# Altium integrated library NXP Semiconductors Standard MOSFETs.IntLib: 477 symbols (part 10 of 14)
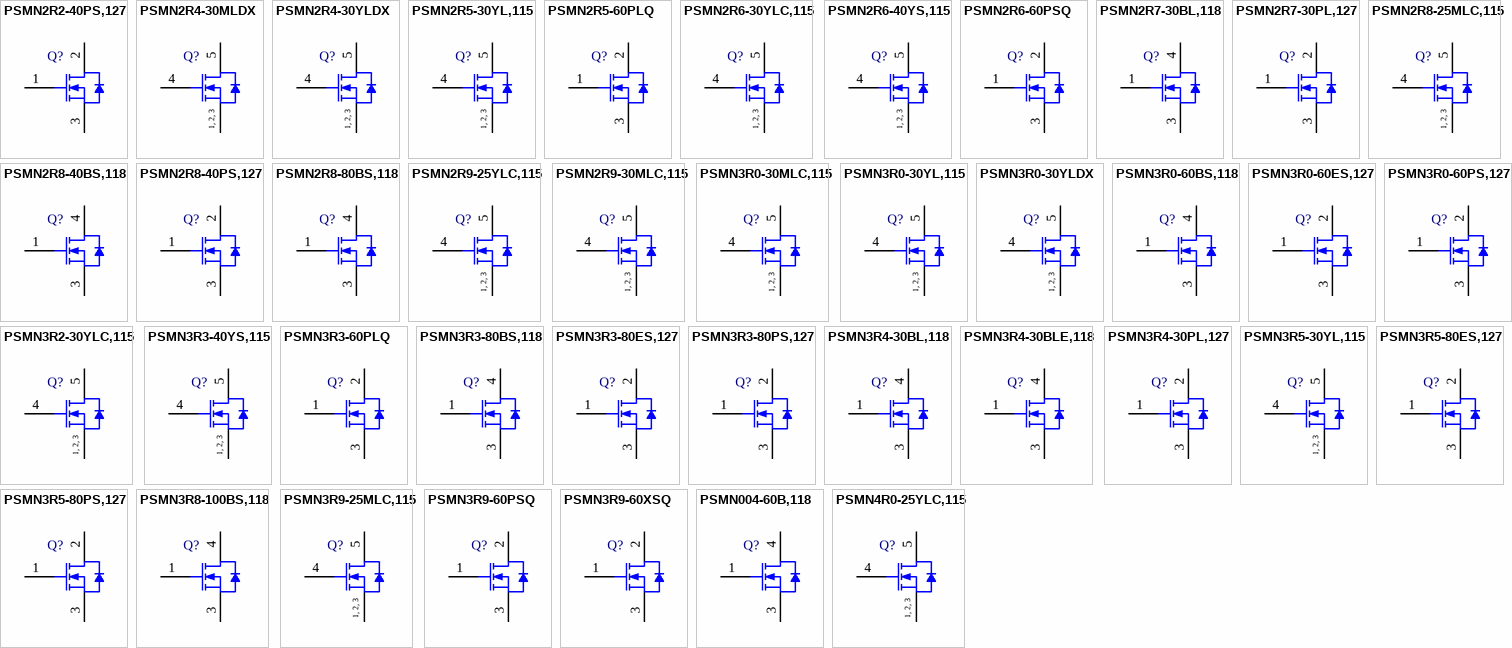
[diagram p21: symbols PSMN2R2-40PS,127 to PSMN4R0-25YLC,115]

## PSMN3R0-30YLDX
designator Q?
N-Channel Logic Level MOSFET Using NextPowerS3 Technology, 30 V, 100 A, 5-Pin SOT669, Tape and Reel; Manufacturer: NXP Semiconductors; PartNumber: PSMN3R0-30YLDX; Channel Type: N; Ciss [typ] (pF): 1959; Coss [typ] (pF): 1029; ID [max] (A): 100; Packing: Tape & Reel; Qr [typ] (nC): 19; VDS [max] (V): 30; VGSth [typ] (V): 1.7; PackageVersion: 13-02-27, 02/2013; PackageReference: SOT669; PackageDescription: 4-Pin Plastic Single-ended Surface Mounted Package, Body 4.9 x 3.95 mm, Pitch 1.27 mm; Supplier 1: Digi-Key; Supplier Part Number 1: 568-11379-2-ND; Supplier 2: Digi-Key; Supplier Part Number 2: 568-11379-1-ND; Supplier 3: Digi-Key; Supplier Part Number 3: 568-11379-6-ND; Supplier 4: Newark; Supplier Part Number 4: 46X5759; Supplier 5: Mouser; Supplier Part Number 5: 771-PSMN3R0-30YLDX; Mounting Technology: Surface Mount; Code_JEDEC: MO-235; ComponentLink1Description: Manufacturer URL; ComponentLink1URL: http://www.nxp.com/; ComponentLink2Description: Datasheet; ComponentLink2URL: http://www.nxp.com/documents/data_sheet/PSMN3R0-30YLD.pdf; ComponentLink3Description: Package Specification; ComponentLink3URL: http://www.nxp.com/documents/outline_drawing/sot669_po.pdf
footprint NXP-SOT669_N (DPAK, 4-Leads, Body 5x4.1mm, Pitch 1.27mm, IPC Medium Density)
footprint NXP-SOT669_L (DPAK, 4-Leads, Body 5x4.1mm, Pitch 1.27mm, IPC High Density)
footprint NXP-SOT669_M (DPAK, 4-Leads, Body 5x4.1mm, Pitch 1.27mm, IPC Low Density)
pins: 1 S "source", 2 S "source", 3 S "source", 4 G "gate", 5 D "mounting base; connected to drain"
text: 1, 2, 3

## PSMN3R0-60BS,118
designator Q?
N-Channel Standard Level MOSFET, 60 V, 100 A, 3-Pin SOT404, Tape and Reel; Manufacturer: NXP Semiconductors; PartNumber: PSMN3R0-60BS,118; Channel Type: N; Ciss [typ] (pF): 8079; Coss [typ] (pF): 971; ID [max] (A): 100; Packing: Tape & Reel; Qr [typ] (nC): 97; VDS [max] (V): 60; VGSth [typ] (V): 3; DatasheetVersion: Rev. 1; PackageVersion: 13-02-25, 02/2013; PackageReference: SOT404; PackageDescription: 3-Pin Plastic Single-ended Surface Mounted Package, Body 10 x 9.6 mm, Pitch 2.54 mm; Supplier 1: Digi-Key; Supplier Part Number 1: 568-9491-2-ND; Supplier 2: Digi-Key; Supplier Part Number 2: 568-9491-1-ND; Supplier 3: Digi-Key; Supplier Part Number 3: 568-9491-6-ND; Supplier 4: Mouser; Supplier Part Number 4: 771-PSMN3R0-60BS,118; Mounting Technology: Surface Mount; ComponentLink1Description: Manufacturer URL; ComponentLink1URL: http://www.nxp.com/; ComponentLink2Description: Datasheet; ComponentLink2URL: http://www.nxp.com/documents/data_sheet/PSMN3R0-60BS.pdf; ComponentLink3Description: Package Specification; ComponentLink3URL: http://www.nxp.com/documents/outline_drawing/sot404_po.pdf
footprint NXP-SOT404_N (DPAK, 3-Leads, Body 10.3x9.8mm, Pitch 2.54mm, IPC Medium Density)
footprint NXP-SOT404_L (DPAK, 3-Leads, Body 10.3x9.8mm, Pitch 2.54mm, IPC High Density)
footprint NXP-SOT404_M (DPAK, 3-Leads, Body 10.3x9.8mm, Pitch 2.54mm, IPC Low Density)
pins: 1 G "gate", 3 S "source", 4 D "mounting base; connected to drain"

## PSMN3R0-60ES,127
designator Q?
N-Channel Standard Level MOSFET, 60 V, 100 A, 3-Pin SOT226, Rail; Manufacturer: NXP Semiconductors; PartNumber: PSMN3R0-60ES,127; Channel Type: N; Ciss [typ] (pF): 8079; Coss [typ] (pF): 971; ID [max] (A): 100; Qr [typ] (nC): 97; VDS [max] (V): 60; VGSth [typ] (V): 3; PackageVersion: 09-08-25, 08/2009; PackageReference: SOT226; PackageDescription: 3-Pin Flange Mount, Vertical Straight Lead, Body 10 x 4.3 mm, Pitch 2.54 mm; Supplier 1: Digi-Key; Supplier Part Number 1: 568-6906-5-ND; Supplier 2: Mouser; Supplier Part Number 2: 771-PSMN3R0-60ES127; Packing: Rail; Mounting Technology: Through Hole; Code_JEDEC: TO-262; ComponentLink1Description: Manufacturer URL; ComponentLink1URL: http://www.nxp.com/; ComponentLink2Description: Datasheet; ComponentLink2URL: http://www.nxp.com/documents/data_sheet/PSMN3R0-60ES.pdf; ComponentLink3Description: Package Specification; ComponentLink3URL: http://www.nxp.com/documents/outline_drawing/sot226_po.pdf
footprint NXP-SOT226 (FM, 3-Leads, Body 10.3x4.5mm, Pitch 2.54mm)
pins: 1 G "gate", 2 D "drain", 3 S "source"

## PSMN3R0-60PS,127
designator Q?
N-Channel Standard Level MOSFET, 60 V, 100 A, 3-Pin SOT78, Tube; Manufacturer: NXP Semiconductors; PartNumber: PSMN3R0-60PS,127; Channel Type: N; Ciss [typ] (pF): 8079; Coss [typ] (pF): 971; ID [max] (A): 100; Qr [typ] (nC): 97; VDS [max] (V): 60; VGSth [typ] (V): 3; DatasheetVersion: Rev. 02; PackageVersion: 08-06-13, 06/2008; PackageReference: SOT78; PackageDescription: 3-Pin Flange Mount, Vertical Straight Lead, Body 10 x 4.4 mm, Pitch 2.54 mm; Supplier 1: Digi-Key; Supplier Part Number 1: 568-4974-5-ND; Supplier 2: Newark; Supplier Part Number 2: 70R7964; Supplier 3: Mouser; Supplier Part Number 3: 771-PSMN3R0-60PS127; Packing: Tube; Mounting Technology: Through Hole; Code_JEITA: SC-46; Code_JEDEC: 3-lead TO-220AB; ComponentLink1Description: Manufacturer URL; ComponentLink1URL: http://www.nxp.com/; ComponentLink2Description: Datasheet; ComponentLink2URL: http://www.nxp.com/documents/data_sheet/PSMN3R0-60PS.pdf; ComponentLink3Description: Package Specification; ComponentLink3URL: http://www.nxp.com/documents/outline_drawing/sot078_po.pdf
footprint NXP-SOT78 (FM, 3-Leads, Body 10.3x4.7mm, Pitch 2.54mm)
pins: 1 G "gate", 2 D "drain", 3 S "source"

## PSMN3R2-30YLC,115
designator Q?
N-Channel Logic Level MOSFET Using NextPower Technology, 30 V, 100 A, 5-Pin SOT669, Tape and Reel; Manufacturer: NXP Semiconductors; PartNumber: PSMN3R2-30YLC,115; Channel Type: N; Ciss [typ] (pF): 2081; Coss [typ] (pF): 432; ID [max] (A): 100; Packing: Tape & Reel; Qr [typ] (nC): 19.5; VDS [max] (V): 30; VGSth [typ] (V): 1.53; DatasheetVersion: Rev. 01; PackageVersion: 13-02-27, 02/2013; PackageReference: SOT669; PackageDescription: 4-Pin Plastic Single-ended Surface Mounted Package, Body 4.9 x 3.95 mm, Pitch 1.27 mm; Supplier 1: Digi-Key; Supplier Part Number 1: 568-6733-2-ND; Supplier 2: Digi-Key; Supplier Part Number 2: 568-6733-1-ND; Supplier 3: Digi-Key; Supplier Part Number 3: 568-6733-6-ND; Supplier 4: Mouser; Supplier Part Number 4: 771-PSMN3R230YLC115; Mounting Technology: Surface Mount; Code_JEDEC: MO-235; ComponentLink1Description: Manufacturer URL; ComponentLink1URL: http://www.nxp.com/; ComponentLink2Description: Datasheet; ComponentLink2URL: http://www.nxp.com/documents/data_sheet/PSMN3R2-30YLC.pdf; ComponentLink3Description: Package Specification; ComponentLink3URL: http://www.nxp.com/documents/outline_drawing/sot669_po.pdf
footprint NXP-SOT669_N (DPAK, 4-Leads, Body 5x4.1mm, Pitch 1.27mm, IPC Medium Density)
footprint NXP-SOT669_L (DPAK, 4-Leads, Body 5x4.1mm, Pitch 1.27mm, IPC High Density)
footprint NXP-SOT669_M (DPAK, 4-Leads, Body 5x4.1mm, Pitch 1.27mm, IPC Low Density)
pins: 1 S "source", 2 S "source", 3 S "source", 4 G "gate", 5 D "mounting base; connected to drain"
text: 1, 2, 3

## PSMN3R3-40YS,115
designator Q?
N-Channel Standard Level MOSFET, 40 V, 100 A, 5-Pin SOT669, Tape and Reel; Manufacturer: NXP Semiconductors; PartNumber: PSMN3R3-40YS,115; Channel Type: N; Ciss [typ] (pF): 2754; Coss [typ] (pF): 600; ID [max] (A): 100; Packing: Tape & Reel; Qr [typ] (nC): 48; VDS [max] (V): 40; VGSth [typ] (V): 3; DatasheetVersion: Rev. 04; PackageVersion: 13-02-27, 02/2013; PackageReference: SOT669; PackageDescription: 4-Pin Plastic Single-ended Surface Mounted Package, Body 4.9 x 3.95 mm, Pitch 1.27 mm; Supplier 1: Digi-Key; Supplier Part Number 1: 568-5590-2-ND; Supplier 2: Digi-Key; Supplier Part Number 2: 568-5590-1-ND; Supplier 3: Digi-Key; Supplier Part Number 3: 568-5590-6-ND; Supplier 4: Newark; Supplier Part Number 4: 99R2978; Supplier 5: Mouser; Supplier Part Number 5: 771-PSMN3R340YS115; Mounting Technology: Surface Mount; Code_JEDEC: MO-235; ComponentLink1Description: Manufacturer URL; ComponentLink1URL: http://www.nxp.com/; ComponentLink2Description: Datasheet; ComponentLink2URL: http://www.nxp.com/documents/data_sheet/PSMN3R3-40YS.pdf; ComponentLink3Description: Package Specification; ComponentLink3URL: http://www.nxp.com/documents/outline_drawing/sot669_po.pdf
footprint NXP-SOT669_N (DPAK, 4-Leads, Body 5x4.1mm, Pitch 1.27mm, IPC Medium Density)
footprint NXP-SOT669_L (DPAK, 4-Leads, Body 5x4.1mm, Pitch 1.27mm, IPC High Density)
footprint NXP-SOT669_M (DPAK, 4-Leads, Body 5x4.1mm, Pitch 1.27mm, IPC Low Density)
pins: 1 S "source", 2 S "source", 3 S "source", 4 G "gate", 5 D "mounting base; connected to drain"
text: 1, 2, 3

## PSMN3R3-60PLQ
designator Q?
N-Channel Logic Level MOSFET, 60 V, 130 A, 3-Pin SOT78, Tube; Manufacturer: NXP Semiconductors; PartNumber: PSMN3R3-60PLQ; Channel Type: N; Ciss [typ] (pF): 10115; Coss [typ] (pF): 822; ID [max] (A): 130; Qr [typ] (nC): 67; VDS [max] (V): 60; VGSth [typ] (V): 1.7; PackageVersion: 08-06-13, 06/2008; PackageReference: SOT78; PackageDescription: 3-Pin Flange Mount, Vertical Straight Lead, Body 10 x 4.4 mm, Pitch 2.54 mm; Supplier 1: Digi-Key; Supplier Part Number 1: 568-10166-5-ND; Supplier 2: Mouser; Supplier Part Number 2: 771-PSMN3R3-60PLQ; Packing: Tube; Mounting Technology: Through Hole; Code_JEITA: SC-46; Code_JEDEC: 3-lead TO-220AB; ComponentLink1Description: Manufacturer URL; ComponentLink1URL: http://www.nxp.com/; ComponentLink2Description: Datasheet; ComponentLink2URL: http://www.nxp.com/documents/data_sheet/PSMN3R3-60PL.pdf; ComponentLink3Description: Package Specification; ComponentLink3URL: http://www.nxp.com/documents/outline_drawing/sot078_po.pdf
footprint NXP-SOT78 (FM, 3-Leads, Body 10.3x4.7mm, Pitch 2.54mm)
pins: 1 G "gate", 2 D "drain", 3 S "source"

## PSMN3R3-80BS,118
designator Q?
N-Channel Standard Level MOSFET, 80 V, 120 A, 3-Pin SOT404, Tape and Reel; Manufacturer: NXP Semiconductors; PartNumber: PSMN3R3-80BS,118; Channel Type: N; Ciss [typ] (pF): 8161; Coss [typ] (pF): 701; ID [max] (A): 120; Packing: Tape & Reel; Qr [typ] (nC): 109; VDS [max] (V): 80; VGSth [typ] (V): 3; DatasheetVersion: Rev. 2; PackageVersion: 13-02-25, 02/2013; PackageReference: SOT404; PackageDescription: 3-Pin Plastic Single-ended Surface Mounted Package, Body 10 x 9.6 mm, Pitch 2.54 mm; Supplier 1: Digi-Key; Supplier Part Number 1: 568-9478-2-ND; Supplier 2: Digi-Key; Supplier Part Number 2: 568-9478-1-ND; Supplier 3: Digi-Key; Supplier Part Number 3: 568-9478-6-ND; Supplier 4: Mouser; Supplier Part Number 4: 771-PSMN3R3-80BS,118; Mounting Technology: Surface Mount; ComponentLink1Description: Manufacturer URL; ComponentLink1URL: http://www.nxp.com/; ComponentLink2Description: Datasheet; ComponentLink2URL: http://www.nxp.com/documents/data_sheet/PSMN3R3-80BS.pdf; ComponentLink3Description: Package Specification; ComponentLink3URL: http://www.nxp.com/documents/outline_drawing/sot404_po.pdf
footprint NXP-SOT404_N (DPAK, 3-Leads, Body 10.3x9.8mm, Pitch 2.54mm, IPC Medium Density)
footprint NXP-SOT404_L (DPAK, 3-Leads, Body 10.3x9.8mm, Pitch 2.54mm, IPC High Density)
footprint NXP-SOT404_M (DPAK, 3-Leads, Body 10.3x9.8mm, Pitch 2.54mm, IPC Low Density)
pins: 1 G "gate", 3 S "source", 4 D "mounting base; connected to drain"

## PSMN3R3-80ES,127
designator Q?
N-Channel Standard Level MOSFET, 80 V, 120 A, 3-Pin SOT226, Rail; Manufacturer: NXP Semiconductors; PartNumber: PSMN3R3-80ES,127; Channel Type: N; Ciss [typ] (pF): 9961; Coss [typ] (pF): 847; ID [max] (A): 120; Qr [typ] (nC): 121; VDS [max] (V): 80; VGSth [typ] (V): 3; DatasheetVersion: Rev. 1; PackageVersion: 09-08-25, 08/2009; PackageReference: SOT226; PackageDescription: 3-Pin Flange Mount, Vertical Straight Lead, Body 10 x 4.3 mm, Pitch 2.54 mm; Supplier 1: Digi-Key; Supplier Part Number 1: 568-8598-5-ND; Supplier 2: Mouser; Supplier Part Number 2: 771-PSMN3R3-80ES127; Packing: Rail; Mounting Technology: Through Hole; Code_JEDEC: TO-262; ComponentLink1Description: Manufacturer URL; ComponentLink1URL: http://www.nxp.com/; ComponentLink2Description: Datasheet; ComponentLink2URL: http://www.nxp.com/documents/data_sheet/PSMN3R3-80ES.pdf; ComponentLink3Description: Package Specification; ComponentLink3URL: http://www.nxp.com/documents/outline_drawing/sot226_po.pdf
footprint NXP-SOT226 (FM, 3-Leads, Body 10.3x4.5mm, Pitch 2.54mm)
pins: 1 G "gate", 2 D "drain", 3 S "source"

## PSMN3R3-80PS,127
designator Q?
N-Channel Standard Level MOSFET, 80 V, 120 A, 3-Pin SOT78, Tube; Manufacturer: NXP Semiconductors; PartNumber: PSMN3R3-80PS,127; Channel Type: N; Ciss [typ] (pF): 9961; Coss [typ] (pF): 847; ID [max] (A): 120; Qr [typ] (nC): 121; VDS [max] (V): 80; VGSth [typ] (V): 3; DatasheetVersion: Rev. 1; PackageVersion: 08-06-13, 06/2008; PackageReference: SOT78; PackageDescription: 3-Pin Flange Mount, Vertical Straight Lead, Body 10 x 4.4 mm, Pitch 2.54 mm; Supplier 1: Digi-Key; Supplier Part Number 1: 568-8597-5-ND; Supplier 2: Mouser; Supplier Part Number 2: 771-PSMN3R3-80PS127; Packing: Tube; Mounting Technology: Through Hole; Code_JEITA: SC-46; Code_JEDEC: 3-lead TO-220AB; ComponentLink1Description: Manufacturer URL; ComponentLink1URL: http://www.nxp.com/; ComponentLink2Description: Datasheet; ComponentLink2URL: http://www.nxp.com/documents/data_sheet/PSMN3R3-80PS.pdf; ComponentLink3Description: Package Specification; ComponentLink3URL: http://www.nxp.com/documents/outline_drawing/sot078_po.pdf
footprint NXP-SOT78 (FM, 3-Leads, Body 10.3x4.7mm, Pitch 2.54mm)
pins: 1 G "gate", 2 D "drain", 3 S "source"

## PSMN3R4-30BL,118
designator Q?
N-Channel Logic Level MOSFET, 30 V, 100 A, 3-Pin SOT404, Tape and Reel; Manufacturer: NXP Semiconductors; PartNumber: PSMN3R4-30BL,118; Channel Type: N; Ciss [typ] (pF): 3907; Coss [typ] (pF): 822; ID [max] (A): 100; Packing: Tape & Reel; Qr [typ] (nC): 28; VDS [max] (V): 30; VGSth [typ] (V): 1.7; DatasheetVersion: Rev. 1; PackageVersion: 13-02-25, 02/2013; PackageReference: SOT404; PackageDescription: 3-Pin Plastic Single-ended Surface Mounted Package, Body 10 x 9.6 mm, Pitch 2.54 mm; Supplier 1: Digi-Key; Supplier Part Number 1: 568-9485-2-ND; Supplier 2: Digi-Key; Supplier Part Number 2: 568-9485-1-ND; Supplier 3: Digi-Key; Supplier Part Number 3: 568-9485-6-ND; Supplier 4: Mouser; Supplier Part Number 4: 771-PSMN3R4-30BL,118; Mounting Technology: Surface Mount; ComponentLink1Description: Manufacturer URL; ComponentLink1URL: http://www.nxp.com/; ComponentLink2Description: Datasheet; ComponentLink2URL: http://www.nxp.com/documents/data_sheet/PSMN3R4-30BL.pdf; ComponentLink3Description: Package Specification; ComponentLink3URL: http://www.nxp.com/documents/outline_drawing/sot404_po.pdf
footprint NXP-SOT404_N (DPAK, 3-Leads, Body 10.3x9.8mm, Pitch 2.54mm, IPC Medium Density)
footprint NXP-SOT404_L (DPAK, 3-Leads, Body 10.3x9.8mm, Pitch 2.54mm, IPC High Density)
footprint NXP-SOT404_M (DPAK, 3-Leads, Body 10.3x9.8mm, Pitch 2.54mm, IPC Low Density)
pins: 1 G "gate", 3 S "source", 4 D "mounting base; connected to drain"

## PSMN3R4-30BLE,118
designator Q?
N-Channel Logic Level MOSFET, 30 V, 120 A, 3-Pin SOT404, Tape and Reel; Manufacturer: NXP Semiconductors; PartNumber: PSMN3R4-30BLE,118; Channel Type: N; Ciss [typ] (pF): 4682; Coss [typ] (pF): 909; ID [max] (A): 120; Packing: Tape & Reel; Qr [typ] (nC): 38; VDS [max] (V): 30; VGSth [typ] (V): 1.7; PackageVersion: 13-02-25, 02/2013; PackageReference: SOT404; PackageDescription: 3-Pin Plastic Single-ended Surface Mounted Package, Body 10 x 9.6 mm, Pitch 2.54 mm; Supplier 1: Digi-Key; Supplier Part Number 1: 568-10257-2-ND; Supplier 2: Digi-Key; Supplier Part Number 2: 568-10257-1-ND; Supplier 3: Digi-Key; Supplier Part Number 3: 568-10257-6-ND; Supplier 4: Mouser; Supplier Part Number 4: 771-PSMN3R4-30BLE118; Mounting Technology: Surface Mount; ComponentLink1Description: Manufacturer URL; ComponentLink1URL: http://www.nxp.com/; ComponentLink2Description: Datasheet; ComponentLink2URL: http://www.nxp.com/documents/data_sheet/PSMN3R4-30BLE.pdf; ComponentLink3Description: Package Specification; ComponentLink3URL: http://www.nxp.com/documents/outline_drawing/sot404_po.pdf
footprint NXP-SOT404_N (DPAK, 3-Leads, Body 10.3x9.8mm, Pitch 2.54mm, IPC Medium Density)
footprint NXP-SOT404_L (DPAK, 3-Leads, Body 10.3x9.8mm, Pitch 2.54mm, IPC High Density)
footprint NXP-SOT404_M (DPAK, 3-Leads, Body 10.3x9.8mm, Pitch 2.54mm, IPC Low Density)
pins: 1 G "gate", 3 S "source", 4 D "mounting base; connected to drain"

## PSMN3R4-30PL,127
designator Q?
N-Channel Logic Level MOSFET, 30 V, 100 A, 3-Pin SOT78, Tube; Manufacturer: NXP Semiconductors; PartNumber: PSMN3R4-30PL,127; Channel Type: N; Ciss [typ] (pF): 3907; Coss [typ] (pF): 822; ID [max] (A): 100; Qr [typ] (nC): 28; VDS [max] (V): 30; VGSth [typ] (V): 1.7; DatasheetVersion: Rev. 01; PackageVersion: 08-06-13, 06/2008; PackageReference: SOT78; PackageDescription: 3-Pin Flange Mount, Vertical Straight Lead, Body 10 x 4.4 mm, Pitch 2.54 mm; Supplier 1: Digi-Key; Supplier Part Number 1: 568-7514-5-ND; Supplier 2: Mouser; Supplier Part Number 2: 771-PSMN3R430PL127; Packing: Tube; Mounting Technology: Through Hole; Code_JEITA: SC-46; Code_JEDEC: 3-lead TO-220AB; ComponentLink1Description: Manufacturer URL; ComponentLink1URL: http://www.nxp.com/; ComponentLink2Description: Datasheet; ComponentLink2URL: http://www.nxp.com/documents/data_sheet/PSMN3R4-30PL.pdf; ComponentLink3Description: Package Specification; ComponentLink3URL: http://www.nxp.com/documents/outline_drawing/sot078_po.pdf
footprint NXP-SOT78 (FM, 3-Leads, Body 10.3x4.7mm, Pitch 2.54mm)
pins: 1 G "gate", 2 D "drain", 3 S "source"

## PSMN3R5-30YL,115
designator Q?
N-Channel Logic Level MOSFET, 30 V, 100 A, 5-Pin SOT669, Tape and Reel; Manufacturer: NXP Semiconductors; PartNumber: PSMN3R5-30YL,115; Channel Type: N; Ciss [typ] (pF): 2458; Coss [typ] (pF): 532; ID [max] (A): 100; Packing: Tape & Reel; Qr [typ] (nC): 31; VDS [max] (V): 30; VGSth [typ] (V): 1.7; DatasheetVersion: Rev. 4; PackageVersion: 13-02-27, 02/2013; PackageReference: SOT669; PackageDescription: 4-Pin Plastic Single-ended Surface Mounted Package, Body 4.9 x 3.95 mm, Pitch 1.27 mm; Supplier 1: Digi-Key; Supplier Part Number 1: 568-4682-2-ND; Supplier 2: Digi-Key; Supplier Part Number 2: 568-4682-1-ND; Supplier 3: Digi-Key; Supplier Part Number 3: 568-4682-6-ND; Supplier 4: Newark; Supplier Part Number 4: 70R7965; Supplier 5: Newark; Supplier Part Number 5: 79R2065; Supplier 6: Mouser; Supplier Part Number 6: 771-PSMN3R5-30YL-T/R; Mounting Technology: Surface Mount; Code_JEDEC: MO-235; ComponentLink1Description: Manufacturer URL; ComponentLink1URL: http://www.nxp.com/; ComponentLink2Description: Datasheet; ComponentLink2URL: http://www.nxp.com/documents/data_sheet/PSMN3R5-30YL.pdf; ComponentLink3Description: Package Specification; ComponentLink3URL: http://www.nxp.com/documents/outline_drawing/sot669_po.pdf
footprint NXP-SOT669_N (DPAK, 4-Leads, Body 5x4.1mm, Pitch 1.27mm, IPC Medium Density)
footprint NXP-SOT669_L (DPAK, 4-Leads, Body 5x4.1mm, Pitch 1.27mm, IPC High Density)
footprint NXP-SOT669_M (DPAK, 4-Leads, Body 5x4.1mm, Pitch 1.27mm, IPC Low Density)
pins: 1 S "source", 2 S "source", 3 S "source", 4 G "gate", 5 D "mounting base; connected to drain"
text: 1, 2, 3

## PSMN3R5-80ES,127
designator Q?
N-Channel Standard Level MOSFET, 80 V, 120 A, 3-Pin SOT226, Rail; Manufacturer: NXP Semiconductors; PartNumber: PSMN3R5-80ES,127; Channel Type: N; Ciss [typ] (pF): 9961; Coss [typ] (pF): 847; ID [max] (A): 120; Qr [typ] (nC): 121; VDS [max] (V): 80; VGSth [typ] (V): 3; DatasheetVersion: Rev. 02; PackageVersion: 09-08-25, 08/2009; PackageReference: SOT226; PackageDescription: 3-Pin Flange Mount, Vertical Straight Lead, Body 10 x 4.3 mm, Pitch 2.54 mm; Supplier 1: Digi-Key; Supplier Part Number 1: 568-6711-5-ND; Supplier 2: Mouser; Supplier Part Number 2: 771-PSMN3R580ES127; Packing: Rail; Mounting Technology: Through Hole; Code_JEDEC: TO-262; ComponentLink1Description: Manufacturer URL; ComponentLink1URL: http://www.nxp.com/; ComponentLink2Description: Datasheet; ComponentLink2URL: http://www.nxp.com/documents/data_sheet/PSMN3R5-80ES.pdf; ComponentLink3Description: Package Specification; ComponentLink3URL: http://www.nxp.com/documents/outline_drawing/sot226_po.pdf
footprint NXP-SOT226 (FM, 3-Leads, Body 10.3x4.5mm, Pitch 2.54mm)
pins: 1 G "gate", 2 D "drain", 3 S "source"

## PSMN3R5-80PS,127
designator Q?
N-Channel Standard Level MOSFET, 80 V, 120 A, 3-Pin SOT78, Tube; Manufacturer: NXP Semiconductors; PartNumber: PSMN3R5-80PS,127; Channel Type: N; Ciss [typ] (pF): 9961; Coss [typ] (pF): 847; ID [max] (A): 120; Qr [typ] (nC): 121; VDS [max] (V): 80; VGSth [typ] (V): 3; DatasheetVersion: Rev. 03; PackageVersion: 08-06-13, 06/2008; PackageReference: SOT78; PackageDescription: 3-Pin Flange Mount, Vertical Straight Lead, Body 10 x 4.4 mm, Pitch 2.54 mm; Supplier 1: Digi-Key; Supplier Part Number 1: 568-6710-5-ND; Supplier 2: Mouser; Supplier Part Number 2: 771-PSMN3R580PS127; Packing: Tube; Mounting Technology: Through Hole; Code_JEITA: SC-46; Code_JEDEC: 3-lead TO-220AB; ComponentLink1Description: Manufacturer URL; ComponentLink1URL: http://www.nxp.com/; ComponentLink2Description: Datasheet; ComponentLink2URL: http://www.nxp.com/documents/data_sheet/PSMN3R5-80PS.pdf; ComponentLink3Description: Package Specification; ComponentLink3URL: http://www.nxp.com/documents/outline_drawing/sot078_po.pdf
footprint NXP-SOT78 (FM, 3-Leads, Body 10.3x4.7mm, Pitch 2.54mm)
pins: 1 G "gate", 2 D "drain", 3 S "source"

## PSMN3R8-100BS,118
designator Q?
N-Channel Standard Level MOSFET, 100 V, 120 A, 3-Pin SOT404, Tape and Reel; Manufacturer: NXP Semiconductors; PartNumber: PSMN3R8-100BS,118; Channel Type: N; Ciss [typ] (pF): 9900; Coss [typ] (pF): 660; ID [max] (A): 120; Packing: Tape & Reel; Qr [typ] (nC): 235; VDS [max] (V): 100; VGSth [typ] (V): 3; DatasheetVersion: Rev. 2; PackageVersion: 13-02-25, 02/2013; PackageReference: SOT404; PackageDescription: 3-Pin Plastic Single-ended Surface Mounted Package, Body 10 x 9.6 mm, Pitch 2.54 mm; Supplier 1: Digi-Key; Supplier Part Number 1: 568-9479-2-ND; Supplier 2: Digi-Key; Supplier Part Number 2: 568-9479-1-ND; Supplier 3: Digi-Key; Supplier Part Number 3: 568-9479-6-ND; Supplier 4: Mouser; Supplier Part Number 4: 771-PSMN3R8100BS,118; Mounting Technology: Surface Mount; ComponentLink1Description: Manufacturer URL; ComponentLink1URL: http://www.nxp.com/; ComponentLink2Description: Datasheet; ComponentLink2URL: http://www.nxp.com/documents/data_sheet/PSMN3R8-100BS.pdf; ComponentLink3Description: Package Specification; ComponentLink3URL: http://www.nxp.com/documents/outline_drawing/sot404_po.pdf
footprint NXP-SOT404_N (DPAK, 3-Leads, Body 10.3x9.8mm, Pitch 2.54mm, IPC Medium Density)
footprint NXP-SOT404_L (DPAK, 3-Leads, Body 10.3x9.8mm, Pitch 2.54mm, IPC High Density)
footprint NXP-SOT404_M (DPAK, 3-Leads, Body 10.3x9.8mm, Pitch 2.54mm, IPC Low Density)
pins: 1 G "gate", 3 S "source", 4 D "mounting base; connected to drain"

## PSMN3R9-25MLC,115
designator Q?
N-Channel Logic Level MOSFET Using NextPower Technology, 25 V, 70 A, 5-Pin SOT1210, Reel; Manufacturer: NXP Semiconductors; PartNumber: PSMN3R9-25MLC,115; Channel Type: N; Ciss [typ] (pF): 1524; Coss [typ] (pF): 376; ID [max] (A): 70; Qr [typ] (nC): 9.2; VDS [max] (V): 25; VGSth [typ] (V): 1.81; DatasheetVersion: Rev. 4; PackageVersion: 14-04-25, 04/2014; PackageReference: SOT1210; PackageDescription: 8-Pin Plastic Single-ended Surface Mounted Package, Body 3.3 x 2.6 mm, Pitch 0.65 mm; Supplier 1: Digi-Key; Supplier Part Number 1: 568-9575-2-ND; Supplier 2: Digi-Key; Supplier Part Number 2: 568-9575-1-ND; Supplier 3: Digi-Key; Supplier Part Number 3: 568-9575-6-ND; Supplier 4: Mouser; Supplier Part Number 4: 771-PSMN3R9-25MLC115; Packing: Reel; Mounting Technology: Surface Mount; ComponentLink1Description: Manufacturer URL; ComponentLink1URL: http://www.nxp.com/; ComponentLink2Description: Datasheet; ComponentLink2URL: http://www.nxp.com/documents/data_sheet/PSMN3R9-25MLC.pdf; ComponentLink3Description: Package Specification; ComponentLink3URL: http://www.nxp.com/documents/outline_drawing/sot1210_po.pdf
footprint NXP-SOT1210_N (DPAK, 5-Leads, Body 3.4x2.7mm, Pitch 0.65mm, IPC Medium Density)
footprint NXP-SOT1210_L (DPAK, 5-Leads, Body 3.4x2.7mm, Pitch 0.65mm, IPC High Density)
footprint NXP-SOT1210_M (DPAK, 5-Leads, Body 3.4x2.7mm, Pitch 0.65mm, IPC Low Density)
pins: 1 S "source", 2 S "source", 3 S "source", 4 G "gate", 5 D "mounting base; connected to drain"
text: 1, 2, 3

## PSMN3R9-60PSQ
designator Q?
N-Channel Standard Level MOSFET, 60 V, 130 A, 3-Pin SOT78, Tube; Manufacturer: NXP Semiconductors; PartNumber: PSMN3R9-60PSQ; Channel Type: N; Ciss [typ] (pF): 5600; Coss [typ] (pF): 740; ID [max] (A): 130; Qr [typ] (nC): 51; VDS [max] (V): 60; VGSth [typ] (V): 3; PackageVersion: 08-06-13, 06/2008; PackageReference: SOT78; PackageDescription: 3-Pin Flange Mount, Vertical Straight Lead, Body 10 x 4.4 mm, Pitch 2.54 mm; Supplier 1: Digi-Key; Supplier Part Number 1: 568-10288-5-ND; Supplier 2: Mouser; Supplier Part Number 2: 771-PSMN3R9-60PSQ; Packing: Tube; Mounting Technology: Through Hole; Code_JEITA: SC-46; Code_JEDEC: 3-lead TO-220AB; ComponentLink1Description: Manufacturer URL; ComponentLink1URL: http://www.nxp.com/; ComponentLink2Description: Datasheet; ComponentLink2URL: http://www.nxp.com/documents/data_sheet/PSMN3R9-60PS.pdf; ComponentLink3Description: Package Specification; ComponentLink3URL: http://www.nxp.com/documents/outline_drawing/sot078_po.pdf
footprint NXP-SOT78 (FM, 3-Leads, Body 10.3x4.7mm, Pitch 2.54mm)
pins: 1 G "gate", 2 D "drain", 3 S "source"

## PSMN3R9-60XSQ
designator Q?
N-Channel Standard Level MOSFET, 60 V, 75 A, 3-Pin SOT186A, Rail; Manufacturer: NXP Semiconductors; PartNumber: PSMN3R9-60XSQ; Channel Type: N; Ciss [typ] (pF): 5494; Coss [typ] (pF): 743; ID [max] (A): 75; Qr [typ] (nC): 53; VDS [max] (V): 60; VGSth [typ] (V): 3; PackageVersion: 06-02-14, 02/2006; PackageReference: SOT186A; PackageDescription: 3-Pin Flange Mount, Vertical Straight Lead, Body 10 x 4.3 mm, Pitch 2.54 mm; Supplier 1: Digi-Key; Supplier Part Number 1: 568-11430-5-ND; Supplier 2: Mouser; Supplier Part Number 2: N/A; Packing: Rail; Mounting Technology: Through Hole; Code_JEDEC: 3-lead TO-220F; ComponentLink1Description: Manufacturer URL; ComponentLink1URL: http://www.nxp.com/; ComponentLink2Description: Datasheet; ComponentLink2URL: http://www.nxp.com/documents/data_sheet/PSMN3R9-60XS.pdf; ComponentLink3Description: Package Specification; ComponentLink3URL: http://www.nxp.com/documents/outline_drawing/sot186a_po.pdf
footprint NXP-SOT186A (FM, 3-Leads, Body 10.3x4.6mm, Pitch 2.54mm)
pins: 1 G "gate", 2 D "drain", 3 S "source"

## PSMN004-60B,118
designator Q?
N-Channel TrenchMOS SiliconMAX Standard Level FET, 60 V, 75 A, 3-Pin SOT404, Tape and Reel; Manufacturer: NXP Semiconductors; PartNumber: PSMN004-60B,118; Channel Type: N; Ciss [typ] (pF): 8300; Coss [typ] (pF): 1050; ID [max] (A): 75; Packing: Tape & Reel; VDS [max] (V): 60; VGSth [typ] (V): 3; DatasheetVersion: Rev. 02; PackageVersion: 13-02-25, 02/2013; PackageReference: SOT404; PackageDescription: 3-Pin Plastic Single-ended Surface Mounted Package, Body 10 x 9.6 mm, Pitch 2.54 mm; Supplier 1: Digi-Key; Supplier Part Number 1: 568-6592-2-ND; Supplier 2: Digi-Key; Supplier Part Number 2: 568-6592-1-ND; Supplier 3: Digi-Key; Supplier Part Number 3: 568-6592-6-ND; Supplier 4: Mouser; Supplier Part Number 4: 771-PSMN004-60B118; Mounting Technology: Surface Mount; ComponentLink1Description: Manufacturer URL; ComponentLink1URL: http://www.nxp.com/; ComponentLink2Description: Datasheet; ComponentLink2URL: http://www.nxp.com/documents/data_sheet/PSMN004-60B.pdf; ComponentLink3Description: Package Specification; ComponentLink3URL: http://www.nxp.com/documents/outline_drawing/sot404_po.pdf
footprint NXP-SOT404_N (DPAK, 3-Leads, Body 10.3x9.8mm, Pitch 2.54mm, IPC Medium Density)
footprint NXP-SOT404_L (DPAK, 3-Leads, Body 10.3x9.8mm, Pitch 2.54mm, IPC High Density)
footprint NXP-SOT404_M (DPAK, 3-Leads, Body 10.3x9.8mm, Pitch 2.54mm, IPC Low Density)
pins: 1 G "gate", 3 S "source", 4 D "mounting base; connected to drain"

## PSMN4R0-25YLC,115
designator Q?
N-Channel Logic Level MOSFET, 25 V, 84 A, 5-Pin SOT669, Tape and Reel; Manufacturer: NXP Semiconductors; PartNumber: PSMN4R0-25YLC,115; Channel Type: N; Ciss [typ] (pF): 1407; Coss [typ] (pF): 354; ID [max] (A): 84; Packing: Tape & Reel; Qr [typ] (nC): 16.1; VDS [max] (V): 25; VGSth [typ] (V): 1.53; DatasheetVersion: Rev. 01; PackageVersion: 13-02-27, 02/2013; PackageReference: SOT669; PackageDescription: 4-Pin Plastic Single-ended Surface Mounted Package, Body 4.9 x 3.95 mm, Pitch 1.27 mm; Supplier 1: Digi-Key; Supplier Part Number 1: 568-6736-2-ND; Supplier 2: Digi-Key; Supplier Part Number 2: 568-6736-1-ND; Supplier 3: Digi-Key; Supplier Part Number 3: 568-6736-6-ND; Supplier 4: Mouser; Supplier Part Number 4: 771-PSMN4R0-25YLC115; Mounting Technology: Surface Mount; Code_JEDEC: MO-235; ComponentLink1Description: Manufacturer URL; ComponentLink1URL: http://www.nxp.com/; ComponentLink2Description: Datasheet; ComponentLink2URL: http://www.nxp.com/documents/data_sheet/PSMN4R0-25YLC.pdf; ComponentLink3Description: Package Specification; ComponentLink3URL: http://www.nxp.com/documents/outline_drawing/sot669_po.pdf
footprint NXP-SOT669_N (DPAK, 4-Leads, Body 5x4.1mm, Pitch 1.27mm, IPC Medium Density)
footprint NXP-SOT669_L (DPAK, 4-Leads, Body 5x4.1mm, Pitch 1.27mm, IPC High Density)
footprint NXP-SOT669_M (DPAK, 4-Leads, Body 5x4.1mm, Pitch 1.27mm, IPC Low Density)
pins: 1 S "source", 2 S "source", 3 S "source", 4 G "gate", 5 D "mounting base; connected to drain"
text: 1, 2, 3

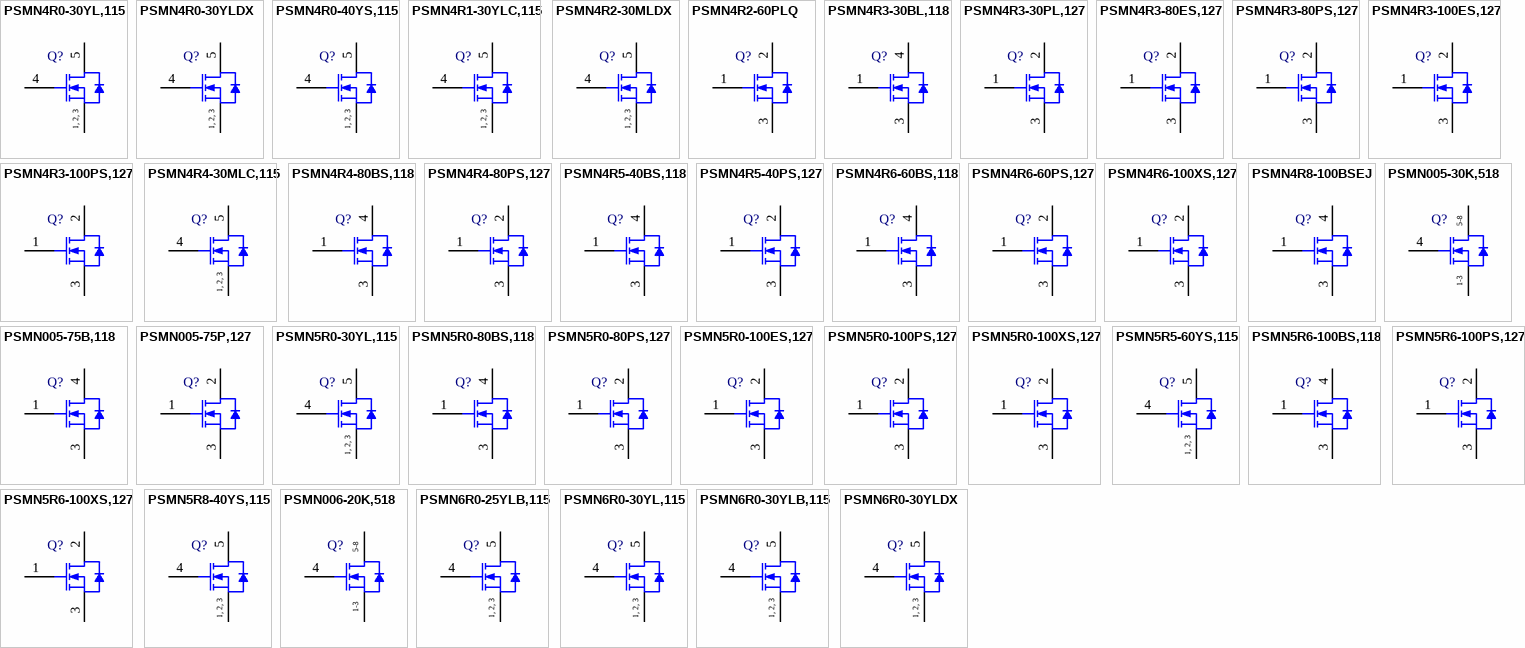
[diagram p9: symbols PSMN4R0-30YL,115 to PSMN6R0-30YLDX]

## PSMN4R0-30YL,115
designator Q?
N-Channel Logic Level MOSFET, 30 V, 100 A, 5-Pin SOT669, Tape and Reel; Manufacturer: NXP Semiconductors; PartNumber: PSMN4R0-30YL,115; Channel Type: N; Ciss [typ] (pF): 2090; Coss [typ] (pF): 469; ID [max] (A): 100; Packing: Tape & Reel; Qr [typ] (nC): 36; VDS [max] (V): 30; VGSth [typ] (V): 1.7; DatasheetVersion: Rev. 04; PackageVersion: 13-02-27, 02/2013; PackageReference: SOT669; PackageDescription: 4-Pin Plastic Single-ended Surface Mounted Package, Body 4.9 x 3.95 mm, Pitch 1.27 mm; Supplier 1: Digi-Key; Supplier Part Number 1: 568-4683-2-ND; Supplier 2: Digi-Key; Supplier Part Number 2: 568-4683-1-ND; Supplier 3: Digi-Key; Supplier Part Number 3: 568-4683-6-ND; Supplier 4: Newark; Supplier Part Number 4: 79R2066; Supplier 5: Mouser; Supplier Part Number 5: 771-PSMN4R0-30YL-T/R; Mounting Technology: Surface Mount; Code_JEDEC: MO-235; ComponentLink1Description: Manufacturer URL; ComponentLink1URL: http://www.nxp.com/; ComponentLink2Description: Datasheet; ComponentLink2URL: http://www.nxp.com/documents/data_sheet/PSMN4R0-30YL.pdf; ComponentLink3Description: Package Specification; ComponentLink3URL: http://www.nxp.com/documents/outline_drawing/sot669_po.pdf
footprint NXP-SOT669_N (DPAK, 4-Leads, Body 5x4.1mm, Pitch 1.27mm, IPC Medium Density)
footprint NXP-SOT669_L (DPAK, 4-Leads, Body 5x4.1mm, Pitch 1.27mm, IPC High Density)
footprint NXP-SOT669_M (DPAK, 4-Leads, Body 5x4.1mm, Pitch 1.27mm, IPC Low Density)
pins: 1 S "source", 2 S "source", 3 S "source", 4 G "gate", 5 D "mounting base; connected to drain"
text: 1, 2, 3

## PSMN4R0-30YLDX
designator Q?
N-Channel Logic Level MOSFET Using NextPowerS3 Technology, 30 V, 95 A, 5-Pin SOT669, Tape and Reel; Manufacturer: NXP Semiconductors; PartNumber: PSMN4R0-30YLDX; Channel Type: N; Ciss [typ] (pF): 1272; Coss [typ] (pF): 812; ID [max] (A): 95; Packing: Tape & Reel; Qr [typ] (nC): 13.3; VDS [max] (V): 30; VGSth [typ] (V): 1.74; PackageVersion: 13-02-27, 02/2013; PackageReference: SOT669; PackageDescription: 4-Pin Plastic Single-ended Surface Mounted Package, Body 4.9 x 3.95 mm, Pitch 1.27 mm; Supplier 1: Digi-Key; Supplier Part Number 1: 568-10433-2-ND; Supplier 2: Digi-Key; Supplier Part Number 2: 568-10433-1-ND; Supplier 3: Digi-Key; Supplier Part Number 3: 568-10433-6-ND; Supplier 4: Newark; Supplier Part Number 4: 23X8437; Supplier 5: Mouser; Supplier Part Number 5: 771-PSMN4R0-30YLDX; Mounting Technology: Surface Mount; Code_JEDEC: MO-235; ComponentLink1Description: Manufacturer URL; ComponentLink1URL: http://www.nxp.com/; ComponentLink2Description: Datasheet; ComponentLink2URL: http://www.nxp.com/documents/data_sheet/PSMN4R0-30YLD.pdf; ComponentLink3Description: Package Specification; ComponentLink3URL: http://www.nxp.com/documents/outline_drawing/sot669_po.pdf
footprint NXP-SOT669_N (DPAK, 4-Leads, Body 5x4.1mm, Pitch 1.27mm, IPC Medium Density)
footprint NXP-SOT669_L (DPAK, 4-Leads, Body 5x4.1mm, Pitch 1.27mm, IPC High Density)
footprint NXP-SOT669_M (DPAK, 4-Leads, Body 5x4.1mm, Pitch 1.27mm, IPC Low Density)
pins: 1 S "source", 2 S "source", 3 S "source", 4 G "gate", 5 D "mounting base; connected to drain"
text: 1, 2, 3

## PSMN4R0-40YS,115
designator Q?
N-Channel Standard Level MOSFET, 40 V, 100 A, 5-Pin SOT669, Tape and Reel; Manufacturer: NXP Semiconductors; PartNumber: PSMN4R0-40YS,115; Channel Type: N; Ciss [typ] (pF): 2410; Coss [typ] (pF): 504; ID [max] (A): 100; Packing: Tape & Reel; Qr [typ] (nC): 45; VDS [max] (V): 40; VGSth [typ] (V): 3; DatasheetVersion: Rev. 02; PackageVersion: 13-02-27, 02/2013; PackageReference: SOT669; PackageDescription: 4-Pin Plastic Single-ended Surface Mounted Package, Body 4.9 x 3.95 mm, Pitch 1.27 mm; Supplier 1: Digi-Key; Supplier Part Number 1: 568-4905-2-ND; Supplier 2: Digi-Key; Supplier Part Number 2: 568-4905-1-ND; Supplier 3: Digi-Key; Supplier Part Number 3: 568-4905-6-ND; Supplier 4: Newark; Supplier Part Number 4: 79R2067; Supplier 5: Newark; Supplier Part Number 5: 70R7967; Supplier 6: Mouser; Supplier Part Number 6: 771-PSMN4R0-40YS,115; Mounting Technology: Surface Mount; Code_JEDEC: MO-235; ComponentLink1Description: Manufacturer URL; ComponentLink1URL: http://www.nxp.com/; ComponentLink2Description: Datasheet; ComponentLink2URL: http://www.nxp.com/documents/data_sheet/PSMN4R0-40YS.pdf; ComponentLink3Description: Package Specification; ComponentLink3URL: http://www.nxp.com/documents/outline_drawing/sot669_po.pdf
footprint NXP-SOT669_N (DPAK, 4-Leads, Body 5x4.1mm, Pitch 1.27mm, IPC Medium Density)
footprint NXP-SOT669_L (DPAK, 4-Leads, Body 5x4.1mm, Pitch 1.27mm, IPC High Density)
footprint NXP-SOT669_M (DPAK, 4-Leads, Body 5x4.1mm, Pitch 1.27mm, IPC Low Density)
pins: 1 S "source", 2 S "source", 3 S "source", 4 G "gate", 5 D "mounting base; connected to drain"
text: 1, 2, 3

## PSMN4R1-30YLC,115
designator Q?
N-Channel Logic Level MOSFET Using NextPower Technology, 30 V, 92 A, 5-Pin SOT669, Tape and Reel; Manufacturer: NXP Semiconductors; PartNumber: PSMN4R1-30YLC,115; Channel Type: N; Ciss [typ] (pF): 1502; Coss [typ] (pF): 316; ID [max] (A): 92; Packing: Tape & Reel; Qr [typ] (nC): 15; VDS [max] (V): 30; VGSth [typ] (V): 1.58; PackageVersion: 13-02-27, 02/2013; PackageReference: SOT669; PackageDescription: 4-Pin Plastic Single-ended Surface Mounted Package, Body 4.9 x 3.95 mm, Pitch 1.27 mm; Supplier 1: Digi-Key; Supplier Part Number 1: 568-6737-2-ND; Supplier 2: Digi-Key; Supplier Part Number 2: 568-6737-1-ND; Supplier 3: Digi-Key; Supplier Part Number 3: 568-6737-6-ND; Supplier 4: Mouser; Supplier Part Number 4: 771-PSMN4R130YLC115; Mounting Technology: Surface Mount; Code_JEDEC: MO-235; ComponentLink1Description: Manufacturer URL; ComponentLink1URL: http://www.nxp.com/; ComponentLink2Description: Datasheet; ComponentLink2URL: http://www.nxp.com/documents/data_sheet/PSMN4R1-30YLC.pdf; ComponentLink3Description: Package Specification; ComponentLink3URL: http://www.nxp.com/documents/outline_drawing/sot669_po.pdf
footprint NXP-SOT669_N (DPAK, 4-Leads, Body 5x4.1mm, Pitch 1.27mm, IPC Medium Density)
footprint NXP-SOT669_L (DPAK, 4-Leads, Body 5x4.1mm, Pitch 1.27mm, IPC High Density)
footprint NXP-SOT669_M (DPAK, 4-Leads, Body 5x4.1mm, Pitch 1.27mm, IPC Low Density)
pins: 1 S "source", 2 S "source", 3 S "source", 4 G "gate", 5 D "mounting base; connected to drain"
text: 1, 2, 3

## PSMN4R2-30MLDX
designator Q?
N-Channel Logic Level MOSFET Using NextPowerS3 Technology, 30 V, 70 A, 5-Pin SOT1210, Reel; Manufacturer: NXP Semiconductors; PartNumber: PSMN4R2-30MLDX; Channel Type: N; Ciss [typ] (pF): 1197; Coss [typ] (pF): 848; ID [max] (A): 70; Qr [typ] (nC): 15; VDS [max] (V): 30; VGSth [typ] (V): 1.7; PackageVersion: 14-04-25, 04/2014; PackageReference: SOT1210; PackageDescription: 8-Pin Plastic Single-ended Surface Mounted Package, Body 3.3 x 2.6 mm, Pitch 0.65 mm; Supplier 1: Digi-Key; Supplier Part Number 1: 568-11376-2-ND; Supplier 2: Digi-Key; Supplier Part Number 2: 568-11376-1-ND; Supplier 3: Digi-Key; Supplier Part Number 3: 568-11376-6-ND; Supplier 4: Newark; Supplier Part Number 4: 27X7568; Supplier 5: Mouser; Supplier Part Number 5: 771-PSMN4R2-30MLDX; Packing: Reel; Mounting Technology: Surface Mount; ComponentLink1Description: Manufacturer URL; ComponentLink1URL: http://www.nxp.com/; ComponentLink2Description: Datasheet; ComponentLink2URL: http://www.nxp.com/documents/data_sheet/PSMN4R2-30MLD.pdf; ComponentLink3Description: Package Specification; ComponentLink3URL: http://www.nxp.com/documents/outline_drawing/sot1210_po.pdf
footprint NXP-SOT1210_N (DPAK, 5-Leads, Body 3.4x2.7mm, Pitch 0.65mm, IPC Medium Density)
footprint NXP-SOT1210_L (DPAK, 5-Leads, Body 3.4x2.7mm, Pitch 0.65mm, IPC High Density)
footprint NXP-SOT1210_M (DPAK, 5-Leads, Body 3.4x2.7mm, Pitch 0.65mm, IPC Low Density)
pins: 1 S "source", 2 S "source", 3 S "source", 4 G "gate", 5 D "mounting base; connected to drain"
text: 1, 2, 3

## PSMN4R2-60PLQ
designator Q?
N-Channel Logic Level MOSFET, 60 V, 130 A, 3-Pin SOT78, Tube; Manufacturer: NXP Semiconductors; PartNumber: PSMN4R2-60PLQ; Channel Type: N; Ciss [typ] (pF): 8533; Coss [typ] (pF): 703; ID [max] (A): 130; Qr [typ] (nC): 59; VDS [max] (V): 60; VGSth [typ] (V): 1.7; PackageVersion: 08-06-13, 06/2008; PackageReference: SOT78; PackageDescription: 3-Pin Flange Mount, Vertical Straight Lead, Body 10 x 4.4 mm, Pitch 2.54 mm; Supplier 1: Digi-Key; Supplier Part Number 1: 568-10167-5-ND; Supplier 2: Mouser; Supplier Part Number 2: 771-PSMN4R2-60PLQ; Packing: Tube; Mounting Technology: Through Hole; Code_JEITA: SC-46; Code_JEDEC: 3-lead TO-220AB; ComponentLink1Description: Manufacturer URL; ComponentLink1URL: http://www.nxp.com/; ComponentLink2Description: Datasheet; ComponentLink2URL: http://www.nxp.com/documents/data_sheet/PSMN4R2-60PL.pdf; ComponentLink3Description: Package Specification; ComponentLink3URL: http://www.nxp.com/documents/outline_drawing/sot078_po.pdf
footprint NXP-SOT78 (FM, 3-Leads, Body 10.3x4.7mm, Pitch 2.54mm)
pins: 1 G "gate", 2 D "drain", 3 S "source"

## PSMN4R3-30BL,118
designator Q?
N-Channel Logic Level MOSFET, 30 V, 100 A, 3-Pin SOT404, Tape and Reel; Manufacturer: NXP Semiconductors; PartNumber: PSMN4R3-30BL,118; Channel Type: N; Ciss [typ] (pF): 2400; Coss [typ] (pF): 500; ID [max] (A): 100; Packing: Tape & Reel; Qr [typ] (nC): 30; VGSth [typ] (V): 1.7; DatasheetVersion: Rev. 1; PackageVersion: 13-02-25, 02/2013; PackageReference: SOT404; PackageDescription: 3-Pin Plastic Single-ended Surface Mounted Package, Body 10 x 9.6 mm, Pitch 2.54 mm; Supplier 1: Digi-Key; Supplier Part Number 1: 568-9486-2-ND; Supplier 2: Digi-Key; Supplier Part Number 2: 568-9486-1-ND; Supplier 3: Digi-Key; Supplier Part Number 3: 568-9486-6-ND; Supplier 4: Mouser; Supplier Part Number 4: 771-PSMN4R3-30BL,118; VDS [max] (V): 30; Mounting Technology: Surface Mount; ComponentLink1Description: Manufacturer URL; ComponentLink1URL: http://www.nxp.com/; ComponentLink2Description: Datasheet; ComponentLink2URL: http://www.nxp.com/documents/data_sheet/PSMN4R3-30BL.pdf; ComponentLink3Description: Package Specification; ComponentLink3URL: http://www.nxp.com/documents/outline_drawing/sot404_po.pdf
footprint NXP-SOT404_N (DPAK, 3-Leads, Body 10.3x9.8mm, Pitch 2.54mm, IPC Medium Density)
footprint NXP-SOT404_L (DPAK, 3-Leads, Body 10.3x9.8mm, Pitch 2.54mm, IPC High Density)
footprint NXP-SOT404_M (DPAK, 3-Leads, Body 10.3x9.8mm, Pitch 2.54mm, IPC Low Density)
pins: 1 G "gate", 3 S "source", 4 D "mounting base; connected to drain"

## PSMN4R3-30PL,127
designator Q?
N-Channel Logic Level MOSFET, 30 V, 100 A, 3-Pin SOT78, Tube; Manufacturer: NXP Semiconductors; PartNumber: PSMN4R3-30PL,127; Channel Type: N; Ciss [typ] (pF): 2400; Coss [typ] (pF): 500; ID [max] (A): 100; Qr [typ] (nC): 30; VGSth [typ] (V): 1.7; DatasheetVersion: Rev. 01; PackageVersion: 08-06-13, 06/2008; PackageReference: SOT78; PackageDescription: 3-Pin Flange Mount, Vertical Straight Lead, Body 10 x 4.4 mm, Pitch 2.54 mm; Supplier 1: Digi-Key; Supplier Part Number 1: 568-4897-5-ND; Supplier 2: Newark; Supplier Part Number 2: 70R7968; Supplier 3: Mouser; Supplier Part Number 3: 771-PSMN4R3-30PL,127; Packing: Tube; VDS [max] (V): 30; Mounting Technology: Through Hole; Code_JEITA: SC-46; Code_JEDEC: 3-lead TO-220AB; ComponentLink1Description: Manufacturer URL; ComponentLink1URL: http://www.nxp.com/; ComponentLink2Description: Datasheet; ComponentLink2URL: http://www.nxp.com/documents/data_sheet/PSMN4R3-30PL.pdf; ComponentLink3Description: Package Specification; ComponentLink3URL: http://www.nxp.com/documents/outline_drawing/sot078_po.pdf
footprint NXP-SOT78 (FM, 3-Leads, Body 10.3x4.7mm, Pitch 2.54mm)
pins: 1 G "gate", 2 D "drain", 3 S "source"

## PSMN4R3-80ES,127
designator Q?
N-Channel Standard Level MOSFET, 80 V, 120 A, 3-Pin SOT226, Rail; Manufacturer: NXP Semiconductors; PartNumber: PSMN4R3-80ES,127; Channel Type: N; Ciss [typ] (pF): 8161; Coss [typ] (pF): 701; ID [max] (A): 120; Qr [typ] (nC): 109; VDS [max] (V): 80; VGSth [typ] (V): 3; DatasheetVersion: Rev. 02; PackageVersion: 09-08-25, 08/2009; PackageReference: SOT226; PackageDescription: 3-Pin Flange Mount, Vertical Straight Lead, Body 10 x 4.3 mm, Pitch 2.54 mm; Supplier 1: Digi-Key; Supplier Part Number 1: 568-6708-5-ND; Supplier 2: Mouser; Supplier Part Number 2: 771-PSMN4R380ES127; Packing: Rail; Mounting Technology: Through Hole; Code_JEDEC: TO-262; ComponentLink1Description: Manufacturer URL; ComponentLink1URL: http://www.nxp.com/; ComponentLink2Description: Datasheet; ComponentLink2URL: http://www.nxp.com/documents/data_sheet/PSMN4R3-80ES.pdf; ComponentLink3Description: Package Specification; ComponentLink3URL: http://www.nxp.com/documents/outline_drawing/sot226_po.pdf
footprint NXP-SOT226 (FM, 3-Leads, Body 10.3x4.5mm, Pitch 2.54mm)
pins: 1 G "gate", 2 D "drain", 3 S "source"

## PSMN4R3-80PS,127
designator Q?
N-Channel Standard Level MOSFET, 80 V, 120 A, 3-Pin SOT78, Tube; Manufacturer: NXP Semiconductors; PartNumber: PSMN4R3-80PS,127; Channel Type: N; Ciss [typ] (pF): 8161; Coss [typ] (pF): 701; ID [max] (A): 120; Qr [typ] (nC): 109; VDS [max] (V): 80; VGSth [typ] (V): 3; DatasheetVersion: Rev. 03; PackageVersion: 08-06-13, 06/2008; PackageReference: SOT78; PackageDescription: 3-Pin Flange Mount, Vertical Straight Lead, Body 10 x 4.4 mm, Pitch 2.54 mm; Supplier 1: Digi-Key; Supplier Part Number 1: 568-6713-5-ND; Supplier 2: Mouser; Supplier Part Number 2: 771-PSMN4R380PS127; Packing: Tube; Mounting Technology: Through Hole; Code_JEITA: SC-46; Code_JEDEC: 3-lead TO-220AB; ComponentLink1Description: Manufacturer URL; ComponentLink1URL: http://www.nxp.com/; ComponentLink2Description: Datasheet; ComponentLink2URL: http://www.nxp.com/documents/data_sheet/PSMN4R3-80PS.pdf; ComponentLink3Description: Package Specification; ComponentLink3URL: http://www.nxp.com/documents/outline_drawing/sot078_po.pdf
footprint NXP-SOT78 (FM, 3-Leads, Body 10.3x4.7mm, Pitch 2.54mm)
pins: 1 G "gate", 2 D "drain", 3 S "source"

## PSMN4R3-100ES,127
designator Q?
N-Channel Standard Level MOSFET, 100 V, 120 A, 3-Pin SOT226, Rail; Manufacturer: NXP Semiconductors; PartNumber: PSMN4R3-100ES,127; Channel Type: N; Ciss [typ] (pF): 9900; Coss [typ] (pF): 660; ID [max] (A): 120; Qr [typ] (nC): 235; VDS [max] (V): 100; VGSth [typ] (V): 3; DatasheetVersion: Rev. 1; PackageVersion: 09-08-25, 08/2009; PackageReference: SOT226; PackageDescription: 3-Pin Flange Mount, Vertical Straight Lead, Body 10 x 4.3 mm, Pitch 2.54 mm; Supplier 1: Digi-Key; Supplier Part Number 1: 568-8596-5-ND; Supplier 2: Mouser; Supplier Part Number 2: 771-PSMN4R3-100ES127; Packing: Rail; Mounting Technology: Through Hole; Code_JEDEC: TO-262; ComponentLink1Description: Manufacturer URL; ComponentLink1URL: http://www.nxp.com/; ComponentLink2Description: Datasheet; ComponentLink2URL: http://www.nxp.com/documents/data_sheet/PSMN4R3-100ES.pdf; ComponentLink3Description: Package Specification; ComponentLink3URL: http://www.nxp.com/documents/outline_drawing/sot226_po.pdf
footprint NXP-SOT226 (FM, 3-Leads, Body 10.3x4.5mm, Pitch 2.54mm)
pins: 1 G "gate", 2 D "drain", 3 S "source"

## PSMN4R3-100PS,127
designator Q?
N-Channel Standard Level MOSFET, 100 V, 120 A, 3-Pin SOT78, Tube; Manufacturer: NXP Semiconductors; PartNumber: PSMN4R3-100PS,127; Channel Type: N; Ciss [typ] (pF): 9900; Coss [typ] (pF): 660; ID [max] (A): 120; Qr [typ] (nC): 235; VDS [max] (V): 100; VGSth [typ] (V): 3; DatasheetVersion: Rev. 1; PackageVersion: 08-06-13, 06/2008; PackageReference: SOT78; PackageDescription: 3-Pin Flange Mount, Vertical Straight Lead, Body 10 x 4.4 mm, Pitch 2.54 mm; Supplier 1: Digi-Key; Supplier Part Number 1: 568-8595-5-ND; Supplier 2: Mouser; Supplier Part Number 2: 771-PSMN4R3-100PS127; Packing: Tube; Mounting Technology: Through Hole; Code_JEITA: SC-46; Code_JEDEC: 3-lead TO-220AB; ComponentLink1Description: Manufacturer URL; ComponentLink1URL: http://www.nxp.com/; ComponentLink2Description: Datasheet; ComponentLink2URL: http://www.nxp.com/documents/data_sheet/PSMN4R3-100PS.pdf; ComponentLink3Description: Package Specification; ComponentLink3URL: http://www.nxp.com/documents/outline_drawing/sot078_po.pdf
footprint NXP-SOT78 (FM, 3-Leads, Body 10.3x4.7mm, Pitch 2.54mm)
pins: 1 G "gate", 2 D "drain", 3 S "source"

## PSMN4R4-30MLC,115
designator Q?
N-Channel Logic Level MOSFET Using NextPower Technology, 30 V, 70 A, 5-Pin SOT1210, Reel; Manufacturer: NXP Semiconductors; PartNumber: PSMN4R4-30MLC,115; Channel Type: N; Ciss [typ] (pF): 1515; Coss [typ] (pF): 333; ID [max] (A): 70; Qr [typ] (nC): 11; VDS [max] (V): 30; VGSth [typ] (V): 1.8; DatasheetVersion: Rev. 3; PackageVersion: 14-04-25, 04/2014; PackageReference: SOT1210; PackageDescription: 8-Pin Plastic Single-ended Surface Mounted Package, Body 3.3 x 2.6 mm, Pitch 0.65 mm; Supplier 1: Digi-Key; Supplier Part Number 1: 568-9576-2-ND; Supplier 2: Digi-Key; Supplier Part Number 2: 568-9576-1-ND; Supplier 3: Digi-Key; Supplier Part Number 3: 568-9576-6-ND; Supplier 4: Mouser; Supplier Part Number 4: 771-PSMN4R4-30MLC115; Packing: Reel; Mounting Technology: Surface Mount; ComponentLink1Description: Manufacturer URL; ComponentLink1URL: http://www.nxp.com/; ComponentLink2Description: Datasheet; ComponentLink2URL: http://www.nxp.com/documents/data_sheet/PSMN4R4-30MLC.pdf; ComponentLink3Description: Package Specification; ComponentLink3URL: http://www.nxp.com/documents/outline_drawing/sot1210_po.pdf
footprint NXP-SOT1210_N (DPAK, 5-Leads, Body 3.4x2.7mm, Pitch 0.65mm, IPC Medium Density)
footprint NXP-SOT1210_L (DPAK, 5-Leads, Body 3.4x2.7mm, Pitch 0.65mm, IPC High Density)
footprint NXP-SOT1210_M (DPAK, 5-Leads, Body 3.4x2.7mm, Pitch 0.65mm, IPC Low Density)
pins: 1 S "source", 2 S "source", 3 S "source", 4 G "gate", 5 D "mounting base; connected to drain"
text: 1, 2, 3

## PSMN4R4-80BS,118
designator Q?
N-Channel Standard Level MOSFET, 80 V, 100 A, 3-Pin SOT404, Tape and Reel; Manufacturer: NXP Semiconductors; PartNumber: PSMN4R4-80BS,118; Channel Type: N; Ciss [typ] (pF): 8400; Coss [typ] (pF): 700; ID [max] (A): 100; Packing: Tape & Reel; Qr [typ] (nC): 130; VDS [max] (V): 80; VGSth [typ] (V): 3; DatasheetVersion: Rev. 1; PackageVersion: 13-02-25, 02/2013; PackageReference: SOT404; PackageDescription: 3-Pin Plastic Single-ended Surface Mounted Package, Body 10 x 9.6 mm, Pitch 2.54 mm; Supplier 1: Digi-Key; Supplier Part Number 1: 568-9493-2-ND; Supplier 2: Digi-Key; Supplier Part Number 2: 568-9493-1-ND; Supplier 3: Digi-Key; Supplier Part Number 3: 568-9493-6-ND; Supplier 4: Mouser; Supplier Part Number 4: 771-PSMN4R4-80BS,118; Mounting Technology: Surface Mount; ComponentLink1Description: Manufacturer URL; ComponentLink1URL: http://www.nxp.com/; ComponentLink2Description: Datasheet; ComponentLink2URL: http://www.nxp.com/documents/data_sheet/PSMN4R4-80BS.pdf; ComponentLink3Description: Package Specification; ComponentLink3URL: http://www.nxp.com/documents/outline_drawing/sot404_po.pdf
footprint NXP-SOT404_N (DPAK, 3-Leads, Body 10.3x9.8mm, Pitch 2.54mm, IPC Medium Density)
footprint NXP-SOT404_L (DPAK, 3-Leads, Body 10.3x9.8mm, Pitch 2.54mm, IPC High Density)
footprint NXP-SOT404_M (DPAK, 3-Leads, Body 10.3x9.8mm, Pitch 2.54mm, IPC Low Density)
pins: 1 G "gate", 3 S "source", 4 D "mounting base; connected to drain"

## PSMN4R4-80PS,127
designator Q?
N-Channel Standard Level FET, 80 V, 100 A, 3-Pin SOT78, Tube; Manufacturer: NXP Semiconductors; PartNumber: PSMN4R4-80PS,127; Channel Type: N; Ciss [typ] (pF): 8400; Coss [typ] (pF): 700; ID [max] (A): 100; Qr [typ] (nC): 130; VDS [max] (V): 80; VGSth [typ] (V): 3; DatasheetVersion: Rev. 01; PackageVersion: 08-06-13, 06/2008; PackageReference: SOT78; PackageDescription: 3-Pin Flange Mount, Vertical Straight Lead, Body 10 x 4.4 mm, Pitch 2.54 mm; Supplier 1: Digi-Key; Supplier Part Number 1: 568-4896-5-ND; Supplier 2: Newark; Supplier Part Number 2: 70R7969; Supplier 3: Mouser; Supplier Part Number 3: 771-PSMN4R4-80PS,127; Packing: Tube; Mounting Technology: Through Hole; Code_JEITA: SC-46; Code_JEDEC: 3-lead TO-220AB; ComponentLink1Description: Manufacturer URL; ComponentLink1URL: http://www.nxp.com/; ComponentLink2Description: Datasheet; ComponentLink2URL: http://www.nxp.com/documents/data_sheet/PSMN4R4-80PS.pdf; ComponentLink3Description: Package Specification; ComponentLink3URL: http://www.nxp.com/documents/outline_drawing/sot078_po.pdf
footprint NXP-SOT78 (FM, 3-Leads, Body 10.3x4.7mm, Pitch 2.54mm)
pins: 1 G "gate", 2 D "drain", 3 S "source"